# Altium schematic symbol library ISL83488.SchLib: 1 symbol
Pins are listed as number, name and electrical type; pins without a type are passive.

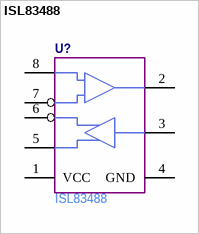
[diagram p0: symbol ISL83488]

## ISL83488
designator U?
Manufacturer Part Number: ISL83488
pins: 1 VCC, 2 RO, 3 DI, 4 GND, 5 Y, 6 Z, 7 B, 8 A